# Altium schematic symbol library Schematic_Inductors.SchLib: 3 symbols
Pins are listed as number, name and electrical type; pins without a type are passive.

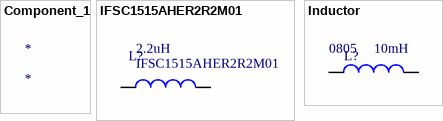
[diagram p0: symbols Component_1 to Inductor]

## Component_1
designator *

## IFSC1515AHER2R2M01
designator L?  Inductance: 2.2uH  (hidden comment: IFSC1515AHER2R2M01)
Inductor Power Shielded Wirewound 2.2uH 20% 100KHz 2.8A 45mOhm DCR 1515 T/R; Manufacturer: Vishay Dale; Current Rating: 3A; DC Resistance (DCR): 45mR; Supplier 1: Digi-Key; RoHS: Yes; Category: Fixed Inductors; Stock 1: 83546; Pricing 1: 1=0.64000, 10=0.55900, 100=0.39960, 500=0.33568, 1000=0.27175 (USD); Mount: Surface Mount; Case/Package: 1515; Number of Pins: 2; Contact Plating: Tin; Min Operating Temperature: -55°C; Max Operating Temperature: 125°C; Packaging: Tape and Reel; Inductance Tolerance: 20%; Tolerance: 20%; Shielding: Shielded; Package Quantity: 2000; Saturation Current: 3A; Termination: SMD/SMT; Test Frequency: 100kHz; RMS Current (Irms): 3A; Military Standard: Not; Length: 4mm; Height: 1.8mm; Width: 3.8mm; Height - Seated (Max): 0.075inch; Depth: 4mm; REACH SVHC: Unknown; Lead Free: Lead Free; ComponentLink1URL: https://datasheet.ciiva.com/8017/sc15ah01-8017541.pdf?src-supplier=Element14; ComponentLink1Description: https://datasheet.ciiva.com/8017/sc15ah01-8017541.pdf?src-supplier=Element14; ComponentLink2URL: https://datasheet.ciiva.com/46395/1913058-46395301.pdf?src-supplier=Element14; ComponentLink2Description: https://datasheet.ciiva.com/46395/1913058-46395301.pdf?src-supplier=Element14; ComponentLink3URL: https://datasheet.ciiva.com/22726/1730404-22726056.pdf?src-supplier=Element14; ComponentLink3Description: https://datasheet.ciiva.com/22726/1730404-22726056.pdf?src-supplier=Element14; ComponentLink4URL: https://datasheet.ciiva.com/8495/sc15ah01-8495050.pdf?src-supplier=Avnet; ComponentLink4Description: https://datasheet.ciiva.com/8495/sc15ah01-8495050.pdf?src-supplier=Avnet; ComponentLink5URL: https://datasheet.ciiva.com/6702/sc15ah01-6702123.pdf?src-supplier=Digi-Key; ComponentLink5Description: https://datasheet.ciiva.com/6702/sc15ah01-6702123.pdf?src-supplier=Digi-Key; ComponentLink6URL: https://datasheet.ciiva.com/6702/sc15ah01-6702124.pdf?src-supplier=Digi-Key; ComponentLink6Description: https://datasheet.ciiva.com/6702/sc15ah01-6702124.pdf?src-supplier=Digi-Key; ComponentLink7URL: https://datasheet.ciiva.com/6702/sc15ah01-6702125.pdf?src-supplier=Digi-Key; ComponentLink7Description: https://datasheet.ciiva.com/6702/sc15ah01-6702125.pdf?src-supplier=Digi-Key; Max DC Current: 3A; Manufacturer Part Number: IFSC1515AHER2R2M01
footprint INDM4040X18N (Molded Inductor, 2-Leads, Body 4.00x4.00mm, IPC Medium Density)
pins: 1, 2

## Inductor
designator L?  value 10mH  PackageDescription: 0805
Inductor; Code_IEC: 1005; PackageReference: 0402-A
simulation model INDUCTOR (Inductor)
signal-integrity model Inductor
pins: 1, 2